# Altium footprint library 3digit_7seg_display.PcbLib: 1 footprints
Each footprint in its own frame and in the unit in brackets; x right, y up, seen from the top. Pads: shape width x height; smd on the part's side, far side on the other; paste and mask are expansions set on the pad; w line width, h text height; cw(c..) or ccw(c..) is an arc to the next point about the centre after c.
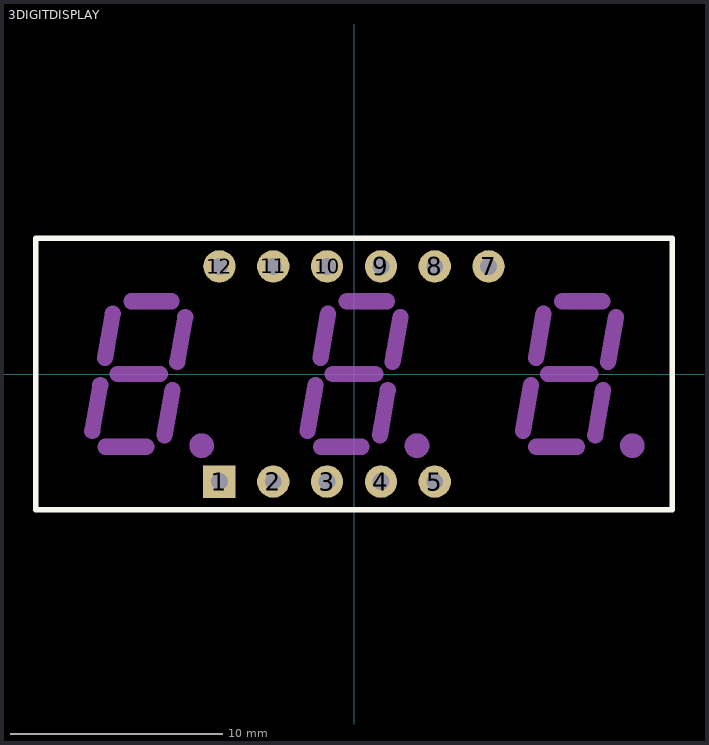
[diagram p0: the footprint, top view; thin cyan lines are the x and y axes]

## 3DIGITDISPLAY [mil]
height 275.59
pads (11):
  rect 60x60 hole 31.5: 1(-250.03,-200)
  round 60 hole 31.5: 2(-150.03,-200) 3(-50.03,-200) 4(49.97,-200) 5(149.97,-200) 7(249.97,200) 8(149.97,200) 9(49.97,200) 10(-50.03,200) 11(-150.03,200) 12(-250.03,200)
Top Overlay:
  lines w10: -590.97,248.42 -590.97,-251.97 -276.02,-251.97 590.92,-251.97 590.92,251.97 416.9,251.97 -590.97,251.97
Mechanical 1:
  circle w33.86: c516.93,-133.07 r5.91
  circle w33.86: c116.93,-133.07 r5.91
  circle w33.86: c-283.07,-133.07 r5.91
  lines w30: -486.22,-105.91 -471.26,-20.47 ; -462.2,29.92 -448.03,111.81 ; -461.42,-135.04 -385.83,-135.04 ; -439.53,0 -360.47,0 ; -413.39,135.04 -338.98,135.04 ; -351.97,-113.78 -337.4,-29.92 ; -328.35,22.05 -313.39,105.91 ; -86.22,-105.91 -71.26,-20.47 ; -62.2,29.92 -48.03,111.81 ; -61.42,-135.04 14.17,-135.04 ; -39.53,0 39.53,0 ; -13.39,135.04 61.02,135.04 ; 48.03,-113.78 62.6,-29.92 ; 71.65,22.05 86.61,105.91 ; 313.78,-105.91 328.74,-20.47 ; 337.8,29.92 351.97,111.81 ; 338.58,-135.04 414.17,-135.04 ; 360.47,0 439.53,0 ; 386.61,135.04 461.02,135.04 ; 448.03,-113.78 462.6,-29.92 ; 471.65,22.05 486.61,105.91
3D body "3digit_39inch.step": height 275.59, standoff -110.24, extent -590.97,-251.97 590.92,251.97